# Altium footprint library PcbLib1.PcbLib: 85 footprints (part 3 of 6)
Each footprint in its own frame and in the unit in brackets; x right, y up, seen from the top. Pads: shape width x height; smd on the part's side, far side on the other; paste and mask are expansions set on the pad; w line width, h text height; cw(c..) or ccw(c..) is an arc to the next point about the centre after c.
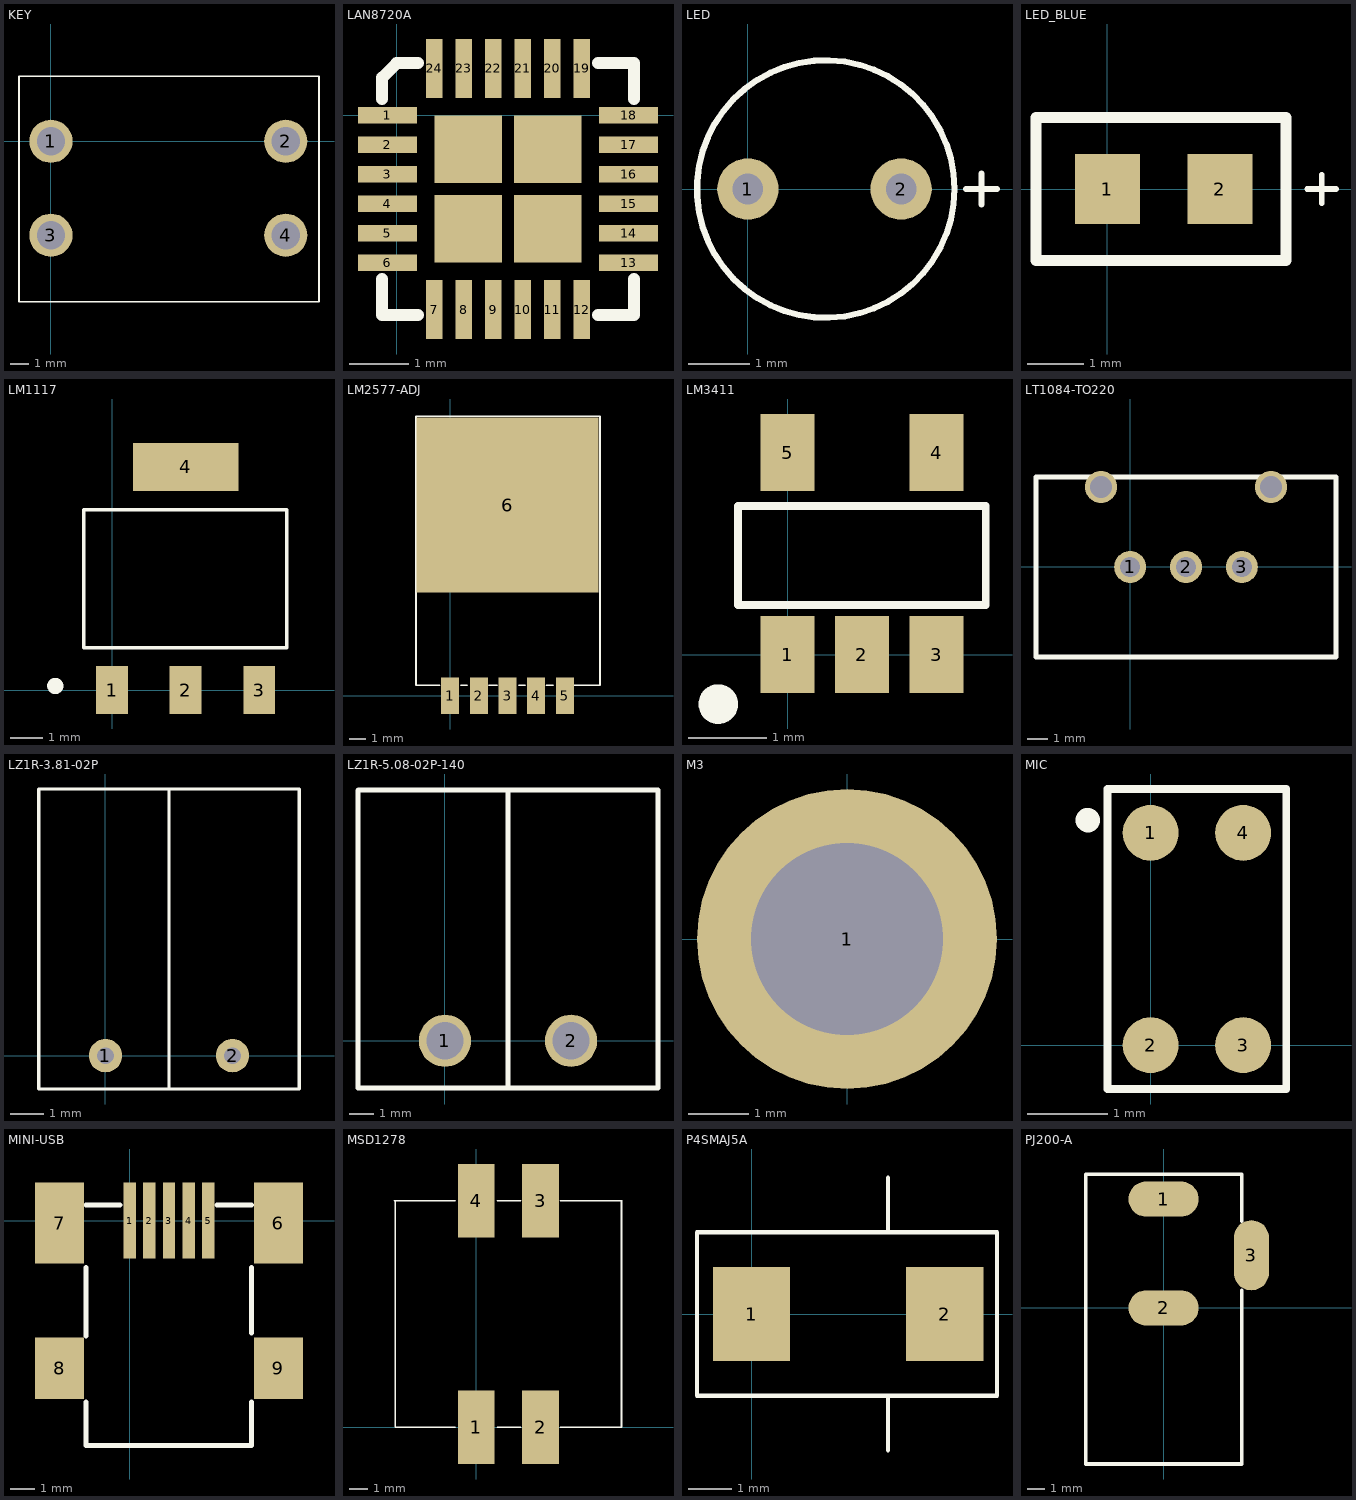
[diagram p2: the footprints below, top view; thin cyan lines are the x and y axes]

## KEY [mm]
pads (4):
  round 2.3 hole 1.5: 1(0,0) 2(12.5,0) 3(0,-5) 4(12.5,-5)
Top Overlay:
  lines w0.1: -1.697,-8.54 -1.697,3.46 14.27,3.46 14.27,-8.54 -1.697,-8.54

## LAN8720A [mm]
pads (28):
  rect 1x0.28 smd: 1(-0.155,0) 2(-0.155,-0.5) 3(-0.155,-1) 4(-0.155,-1.5) 5(-0.155,-2) 6(-0.155,-2.5) 13(3.945,-2.5) 14(3.945,-2) 15(3.945,-1.5) 16(3.945,-1) 17(3.945,-0.5) 18(3.945,0)
  rect 0.28x1 smd: 7(0.645,-3.3) 8(1.145,-3.3) 9(1.645,-3.3) 10(2.145,-3.3) 11(2.645,-3.3) 12(3.145,-3.3) 19(3.145,0.8) 20(2.645,0.8) 21(2.145,0.8) 22(1.645,0.8) 23(1.145,0.8) 24(0.645,0.8)
  rect 1.15x1.15 smd: ""(1.22,-1.925) ""(1.22,-0.575) ""(2.57,-1.925) ""(2.57,-0.575)
Top Overlay:
  lines w0.2: -0.245,-2.78 -0.245,-3.39 0.365,-3.39 ; -0.245,0.28 -0.245,0.645 0,0.89 0.365,0.89 ; 3.425,-3.39 4.035,-3.39 4.035,-2.78 ; 3.425,0.89 4.035,0.89 4.035,0.28

## LED [mm]
pads (2):
  round 1 hole 0.5: 1(0,0) 2(2.5,0)
Top Overlay:
  circle w0.1: c1.27,0 r2.1
  lines w0.1: 3.556,0 4.064,0 ; 3.81,-0.254 3.81,0.254

## LED_BLUE [mm]
pads (2):
  rect 1.15x1.25 smd: 1(0,0) 2(2,0)
Top Overlay:
  lines w0.1: 3.556,0 4.064,0 ; 3.81,-0.254 3.81,0.254
  lines w0.2: -1.27,-1.27 -1.27,1.27 3.175,1.27 3.175,-1.27 -1.27,-1.27

## LM1117 [mm]
pads (4):
  rect 1x1.5 smd: 1(0,0) 2(2.3,0) 3(4.6,0)
  rect 3.3x1.5 smd: 4(2.3,6.98)
Top Overlay:
  circle w0.254: c-1.778,0.127 r0.127
  lines w0.1: -0.889,1.321 5.461,1.321 5.461,5.639 -0.889,5.639 -0.889,1.321

## LM2577-ADJ [mm]
pads (6):
  rect 1.07x2.16 smd: 1(0,0) 2(1.7,0) 3(3.4,0) 4(5.1,0) 5(6.8,0)
  rect 10.8x10.4 smd: 6(3.4,11.32)
Top Overlay:
  lines w0.1: -0.635,0.635 -2.032,0.635 -2.032,13.589 -2.032,16.589 8.89,16.589 8.89,13.589 8.89,0.635 7.366,0.635 ; 0.635,0.635 1.016,0.635 ; 2.286,0.635 2.794,0.635 ; 4.064,0.635 4.445,0.635 ; 5.715,0.635 6.096,0.635

## LM3411 [mm]
pads (5):
  rect 0.69x0.99 smd: 1(0,0) 2(0.953,0) 3(1.91,0) 4(1.91,2.59) 5(0,2.59)
Top Overlay:
  circle w0.254: c-0.889,-0.635 r0.127
  lines w0.1: -0.635,0.635 -0.635,1.905 2.54,1.905 2.54,0.635 -0.635,0.635

## LT1084-TO220 [mm]
pads (5):
  round 1.6 hole 1: 1(0,0) 2(2.794,0) 3(5.588,0)
  round 1.6 hole 1.1: ""(-1.456,4) ""(7.044,4)
Top Overlay:
  lines w0.254: 10.239,-4.5 -4.706,-4.5 -4.706,4.5 10.294,4.5 10.294,-4.5

## LZ1R-3.81-02P [mm]
pads (2):
  round 1 hole 0.5: 1(0,0) 2(3.81,0)
Top Overlay:
  lines w0.1: 1.905,-1 1.905,8 ; -2,-1 -2,8 5.81,8 5.81,-1 -2,-1

## LZ1R-5.08-02P-140 [mm]
pads (2):
  round 2.1 hole 1.5: 1(0,0) 2(5.08,0)
Top Overlay:
  lines w0.2: 2.54,-1.9 2.54,10.1 ; -3.5,-1.9 8.58,-1.9 8.58,10.1 -3.489,10.1 -3.5,10.089 -3.5,0 -3.5,-1.9

## M3 [mm]
pads (1):
  round 5 hole 3.2: 1(0,0)

## MIC [mm]
pads (4):
  round 0.7 smd: 1(0,2.66) 2(0,0) 3(1.16,0) 4(1.16,2.66)
Top Overlay:
  circle w0.254: c-0.787,2.819 r0.025
  lines w0.1: -0.54,-0.55 -0.54,3.21 1.7,3.21 1.7,-0.55 -0.54,-0.55

## MINI-USB [mm]
pads (9):
  rect 0.5x3.1 smd: 1(0,0) 2(0.8,0) 3(1.6,0) 4(2.4,0) 5(3.2,0)
  rect 2x3.3 smd: 6(6.05,-0.1) 7(-2.85,-0.1)
  rect 2x2.5 smd: 8(-2.85,-6) 9(6.05,-6)
Top Overlay:
  lines w0.2: -1.778,-7.366 -1.778,-9.144 4.953,-9.144 4.953,-7.366 ; -1.778,-4.699 -1.778,-1.905 ; -1.778,0.635 -0.381,0.635 ; 3.556,0.635 4.953,0.635 ; 4.953,-4.572 4.953,-1.905

## MSD1278 [mm]
pads (4):
  rect 2x4 smd: 1(0,0) 2(3.5,0) 3(3.5,12.3) 4(0,12.3)
Top Overlay:
  lines w0.1: -4.445,12.3 -1.143,12.3 ; -4.4,12.255 -4.4,0 -1.143,0 ; 1.143,0 2.413,0 ; 1.143,12.3 2.413,12.3 ; 4.572,0 7.9,0 7.9,12.293 7.893,12.3 6.985,12.3 4.572,12.3

## P4SMAJ5A [mm]
pads (2):
  rect 1.8x2.2 smd: 1(0,0) 2(4.5,0)
Top Overlay:
  lines w0.1: 3.175,-3.175 3.175,-1.905 ; 3.175,1.905 3.175,3.175 ; -1.27,-1.905 5.715,-1.905 5.715,1.905 -1.27,1.905 -1.27,-1.905

## PJ200-A [mm]
pads (3):
  oval 4x2 all layers, no hole: 1(0,6.2) 2(0,0)
  oval 2x4 all layers, no hole: 3(5,3)
Top Overlay:
  lines w0.2: 4.445,1.016 4.445,-8.89 -4.445,-8.89 -4.445,7.62 4.445,7.62 4.445,4.953